# Altium schematic symbol library SIT5156AI-FK-33E0-25.000000X.SchLib: 1 symbol
Pins are listed as number, name and electrical type; pins without a type are passive.

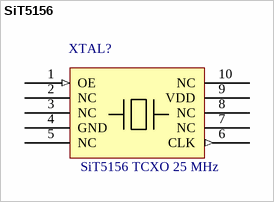
[diagram p0: symbol SiT5156]

## SiT5156
designator XTAL?, comment SiT5156 TCXO 25 MHz
Crystal oscillator
pins: 1 OE (in), 2 NC, 3 NC, 4 GND, 5 NC, 6 CLK (out), 7 NC, 8 NC, 9 VDD (power), 10 NC